# EAGLE library part XC9572XL-VQ64 (library terriblefire)
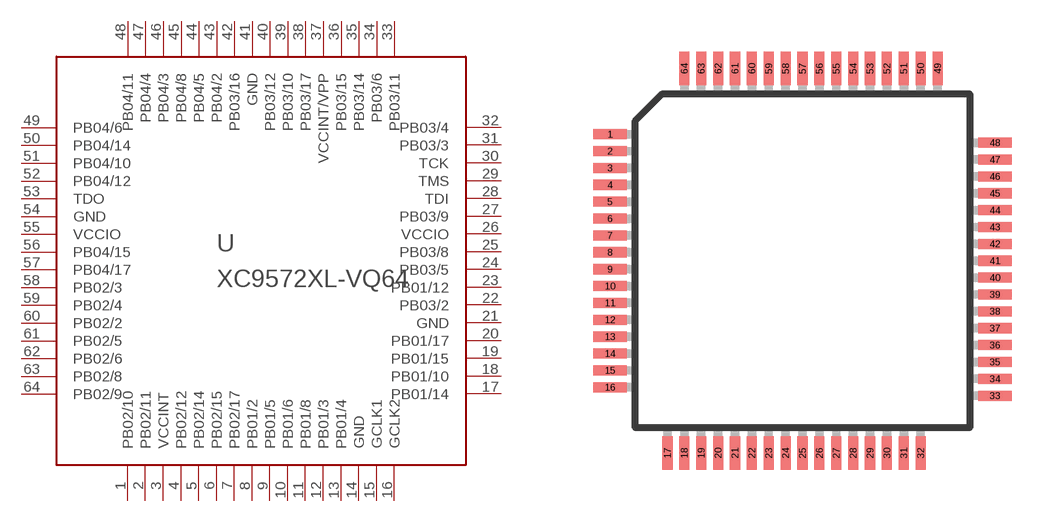
[diagram p0: symbol with the pads of VQFP64; footprint VQFP64]

Designator prefix -

## XC9572XL-VQ64  [VQFP64]
1  PB02/10
2  PB02/11
3  VCCINT
4  PB02/12
5  PB02/14
6  PB02/15
7  PB02/17
8  PB01/2
9  PB01/5
10  PB01/6
11  PB01/8
12  PB01/3
13  PB01/4
14  GND
15  GCLK1
16  GCLK2
17  PB01/14
18  PB01/10
19  PB01/15
20  PB01/17
21  GND
22  PB03/2
23  PB01/12
24  PB03/5
25  PB03/8
26  VCCIO
27  PB03/9
28  TDI
29  TMS
30  TCK
31  PB03/3
32  PB03/4
33  PB03/11
34  PB03/6
35  PB03/14
36  PB03/15
37  VCCINT/VPP
38  PB03/17
39  PB03/10
40  PB03/12
41  GND
42  PB03/16
43  PB04/2
44  PB04/5
45  PB04/8
46  PB04/3
47  PB04/4
48  PB04/11
49  PB04/6
50  PB04/14
51  PB04/10
52  PB04/12
53  TDO
54  GND
55  VCCIO
56  PB04/15
57  PB04/17
58  PB02/3
59  PB02/4
60  PB02/2
61  PB02/5
62  PB02/6
63  PB02/8
64  PB02/9

## Footprint VQFP64 (pad centres in mm)
64-lead VQVP Source. http://www.atmel.com/dyn/resources/prod_documents/doc4136.pdf
smd 1 x 0.3: 1 -5.7,3.75; 2 -5.7,3.25; 3 -5.7,2.75; 4 -5.7,2.25; 5 -5.7,1.75; 6 -5.7,1.25; 7 -5.7,0.75; 8 -5.7,0.25; 9 -5.7,-0.25; 10 -5.7,-0.75; 11 -5.7,-1.25; 12 -5.7,-1.75; 13 -5.7,-2.25; 14 -5.7,-2.75; 15 -5.7,-3.25; 16 -5.7,-3.75; 33 5.7,-4; 34 5.7,-3.5; 35 5.7,-3; 36 5.7,-2.5; 37 5.7,-2; 38 5.7,-1.5; 39 5.7,-1; 40 5.7,-0.5; 41 5.7,0; 42 5.7,0.5; 43 5.7,1; 44 5.7,1.5; 45 5.7,2; 46 5.7,2.5; 47 5.7,3; 48 5.7,3.5
smd 0.3 x 1: 17 -4,-5.7; 18 -3.5,-5.7; 19 -3,-5.7; 20 -2.5,-5.7; 21 -2,-5.7; 22 -1.5,-5.7; 23 -1,-5.7; 24 -0.5,-5.7; 25 0,-5.7; 26 0.5,-5.7; 27 1,-5.7; 28 1.5,-5.7; 29 2,-5.7; 30 2.5,-5.7; 31 3,-5.7; 32 3.5,-5.7; 49 4,5.7; 50 3.5,5.7; 51 3,5.7; 52 2.5,5.7; 53 2,5.7; 54 1.5,5.7; 55 1,5.7; 56 0.5,5.7; 57 0,5.7; 58 -0.5,5.7; 59 -1,5.7; 60 -1.5,5.7; 61 -2,5.7; 62 -2.5,5.7; 63 -3,5.7; 64 -3.5,5.7